# Altium schematic symbol library Relay_IXYS_CPC1927J_eec.SchLib: 1 symbol
Pins are listed as number, name and electrical type; pins without a type are passive.

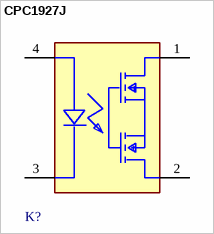
[diagram p0: symbol CPC1927J]

## CPC1927J
designator K?  (value not drawn)
pins: 1 1 DRAIN, 2 2 DRAIN, 3 C, 4 A